# EAGLE library part 418127160903 (library Wurth_Elektronik_Electromechanic_Switchs_rev15b)
WS-IC-2.54 mm small compact THT Dip Switch with top tape,6 pins,3 poles
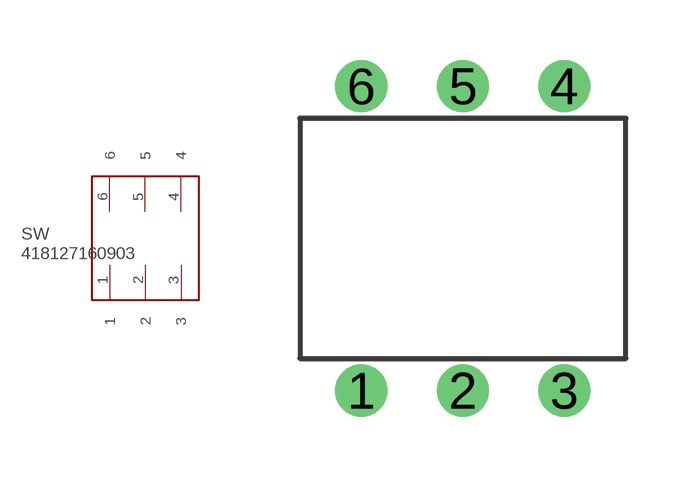
[diagram p48: symbol with the pads of 418127160903; footprint 418127160903]

Designator prefix SW

## 418127160903  [418127160903]
1  1
2  2
3  3
4  4
5  5
6  6

## Footprint 418127160903 (pad centres in mm)
WS-IC-2.54 mm small compact THT Dip Switch with top tape,6 pins,3 poles
drill 0.8: 1 0,-3.81; 2 2.54,-3.81; 3 5.08,-3.81; 4 5.08,3.81; 5 2.54,3.81; 6 0,3.81